# Altium schematic symbol library CAP 0.068uF 50V.Schlib: 1 symbol
Pins are listed as number, name and electrical type; pins without a type are passive.

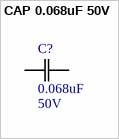
[diagram p0: symbol CAP 0.068uF 50V]

## CAP 0.068uF 50V
designator C?, comment Rating: 50V  (hidden comment: 0.068uF)
CAP CER 0.068UF 50V X7R 0603/0805; Tolerance: 10%; Package: 0603/0805; Temperature Coefficient: X7R; Operating Temperature: -55°C ~ 125°C; Value: 0.068uF
footprint 0603
footprint 0805
pins: 1 C1, 2 C2